# Altium footprint library QUTMS_PowerSupplyLibrary.PcbLib: 3 footprints
Each footprint in its own frame and in the unit in brackets; x right, y up, seen from the top. Pads: shape width x height; smd on the part's side, far side on the other; paste and mask are expansions set on the pad; w line width, h text height; cw(c..) or ccw(c..) is an arc to the next point about the centre after c.
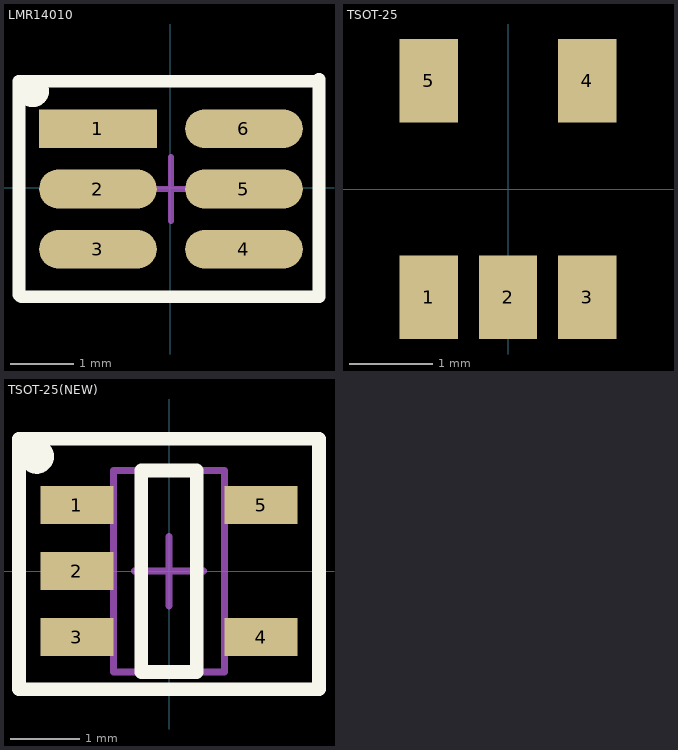
[diagram p0: the footprints below, top view; thin cyan lines are the x and y axes]

## LMR14010 [mm]
pads (6):
  rect 1.854x0.612 smd paste+0 mask+0: 1(-1.136,0.933)
  rrect100% 1.854x0.612 smd paste+0 mask+0: 2(-1.136,-0.017) 3(-1.136,-0.967) 4(1.164,-0.967) 5(1.164,-0.017) 6(1.164,0.933)
Top Overlay:
  circle w0.25: c-2.159,1.524 r0.125
  lines w0.2: -1.386,-1.717 1.414,-1.717 ; 0.014,1.683 2.318,1.683 2.347,1.712 2.347,1.59 2.347,-1.717 1.414,-1.717 ; 1.414,1.683 -1.386,1.683 -2.381,1.683 -2.381,-1.683 -2.347,-1.717 1.414,-1.717
Mechanical 16:
  lines w0.1: -0.486,-0.017 0.514,-0.017 ; 0.014,-0.517 0.014,0.483
3D body "IC_Texas_Instruments_LMR14010ADDCR_eec.STEP": height 0.25, standoff 0, extent -2.563,-1.967 2.592,1.933

## TSOT-25 [mm]
pads (5):
  rect 0.7x1 smd mask+0.051: 1(-0.95,-1.3) 2(0,-1.3) 3(0.95,-1.3) 4(0.95,1.3) 5(-0.95,1.3)
3D body "SOT23_5.stp": height 0.92, standoff 0.01, extent -1.476,-1.602 1.524,1.602

## TSOT-25(NEW) [mm] "SOT23, 5-Leads, Body 2.90x2.80mm, Pitch 0.95mm, IPC Medium Density"
height 1
pads (5):
  rect 1.05x0.55 smd: 1(-1.325,0.95) 2(-1.325,0) 3(-1.325,-0.95) 4(1.325,-0.95) 5(1.325,0.95)
Top Overlay:
  circle w0.25: c-1.905,1.651 r0.125
  lines w0.2: -2.159,-1.7 2.159,-1.7 2.159,1.905 1.684,1.905 1.554,1.905 0.874,1.905 -0.874,1.905 -1.554,1.905 -1.684,1.905 -2.159,1.905 -2.159,0.85 -2.159,-0.85 -2.159,-1.7 ; -0.4,-1.45 -0.4,1.45 0.4,1.45 0.4,-1.45 -0.4,-1.45
Mechanical 13:
  lines w0.1: -0.8,-1.45 0.8,-1.45 0.8,1.45 -0.8,1.45 -0.8,-1.45
Mechanical 15:
  lines w0.1: -0.5,0 0.5,0 ; 0,-0.5 0,0.5
3D body "SOT95P280X100-5N.step": height 1, standoff 0, extent -1.4,-1.45 1.4,1.45